# Altium integrated library WS-SLTU 10x2.5 mm THT right angled.IntLib: 1 symbol
Pins are listed as number, name and electrical type; pins without a type are passive.

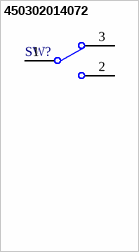
[diagram p0: symbol 450302014072]

## 450302014072
designator SW?
WS-SLTU 10mm*2.5mm, SPDT, ON-ON, 2.54mm, right angle type, THT, Mini Slide Switch, 3 pins; PartNumber: 450302014072; NoPins: 06; PackageReference: 450302014072; ComponentLink1Description: Manufacturer URL; ComponentLink1URL: http://www.we-online.com; ComponentLink2Description: Datasheet; ComponentLink2URL: http://katalog.we-online.de/em/datasheet/450302014072.pdf
footprint 450302014072 (10mm*2.5mm. SPDT, ON-ON, 2.54mm, right-angle type, THT, bulk)
pins: 1, 2, 3